# Altium footprint library SON50P250X250X80-11N-D.PcbLib: 1 footprints
Each footprint in its own frame and in the unit in brackets; x right, y up, seen from the top. Pads: shape width x height; smd on the part's side, far side on the other; paste and mask are expansions set on the pad; w line width, h text height; cw(c..) or ccw(c..) is an arc to the next point about the centre after c.
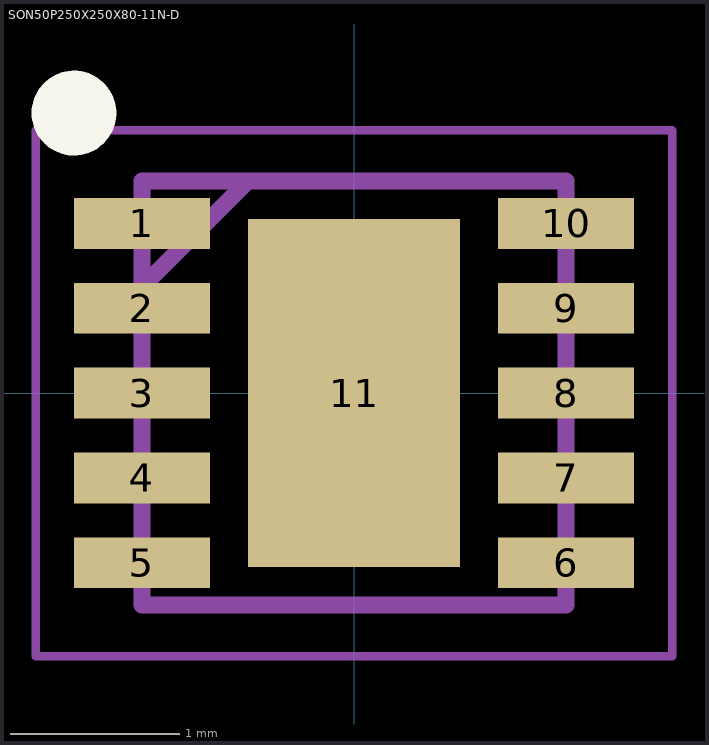
[diagram p0: the footprint, top view; thin cyan lines are the x and y axes]

## SON50P250X250X80-11N-D [mm]
pads (11):
  rect 0.8x0.3 smd: 1(-1.25,1) 2(-1.25,0.5) 3(-1.25,0) 4(-1.25,-0.5) 5(-1.25,-1) 6(1.25,-1) 7(1.25,-0.5) 8(1.25,0) 9(1.25,0.5) 10(1.25,1)
  rect 1.25x2.05 smd: 11(0,0)
Top Overlay:
  circle w0.25: c-1.65,1.65 r0.125
Mechanical 15:
  lines w0.1: -1.25,0.625 -0.625,1.25 ; -1.25,-1.25 1.25,-1.25 1.25,1.25 -1.25,1.25 -1.25,-1.25
Mechanical 20:
  lines w0.05: -1.875,-1.55 1.875,-1.55 1.875,1.55 -1.875,1.55 -1.875,-1.55